# Altium schematic symbol library port6.SchLib: 1 symbol
Pins are listed as number, name and electrical type; pins without a type are passive.

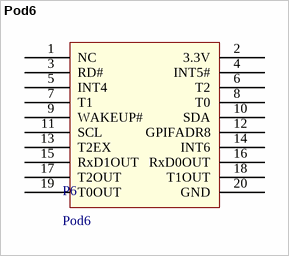
[diagram p0: symbol Pod6]

## Pod6
designator P6
footprint Pin Header 20x2
pins: 1 NC, 2 3.3V, 3 RD#, 4 INT5#, 5 INT4, 6 T2, 7 T1, 8 T0, 9 WAKEUP#, 10 SDA, 11 SCL, 12 GPIFADR8, 13 T2EX, 14 INT6, 15 RxD1OUT, 16 RxD0OUT, 17 T2OUT, 18 T1OUT, 19 T0OUT, 20 GND